# Altium integrated library transistor-power.IntLib: 74 symbols
Pins are listed as number, name and electrical type; pins without a type are passive.

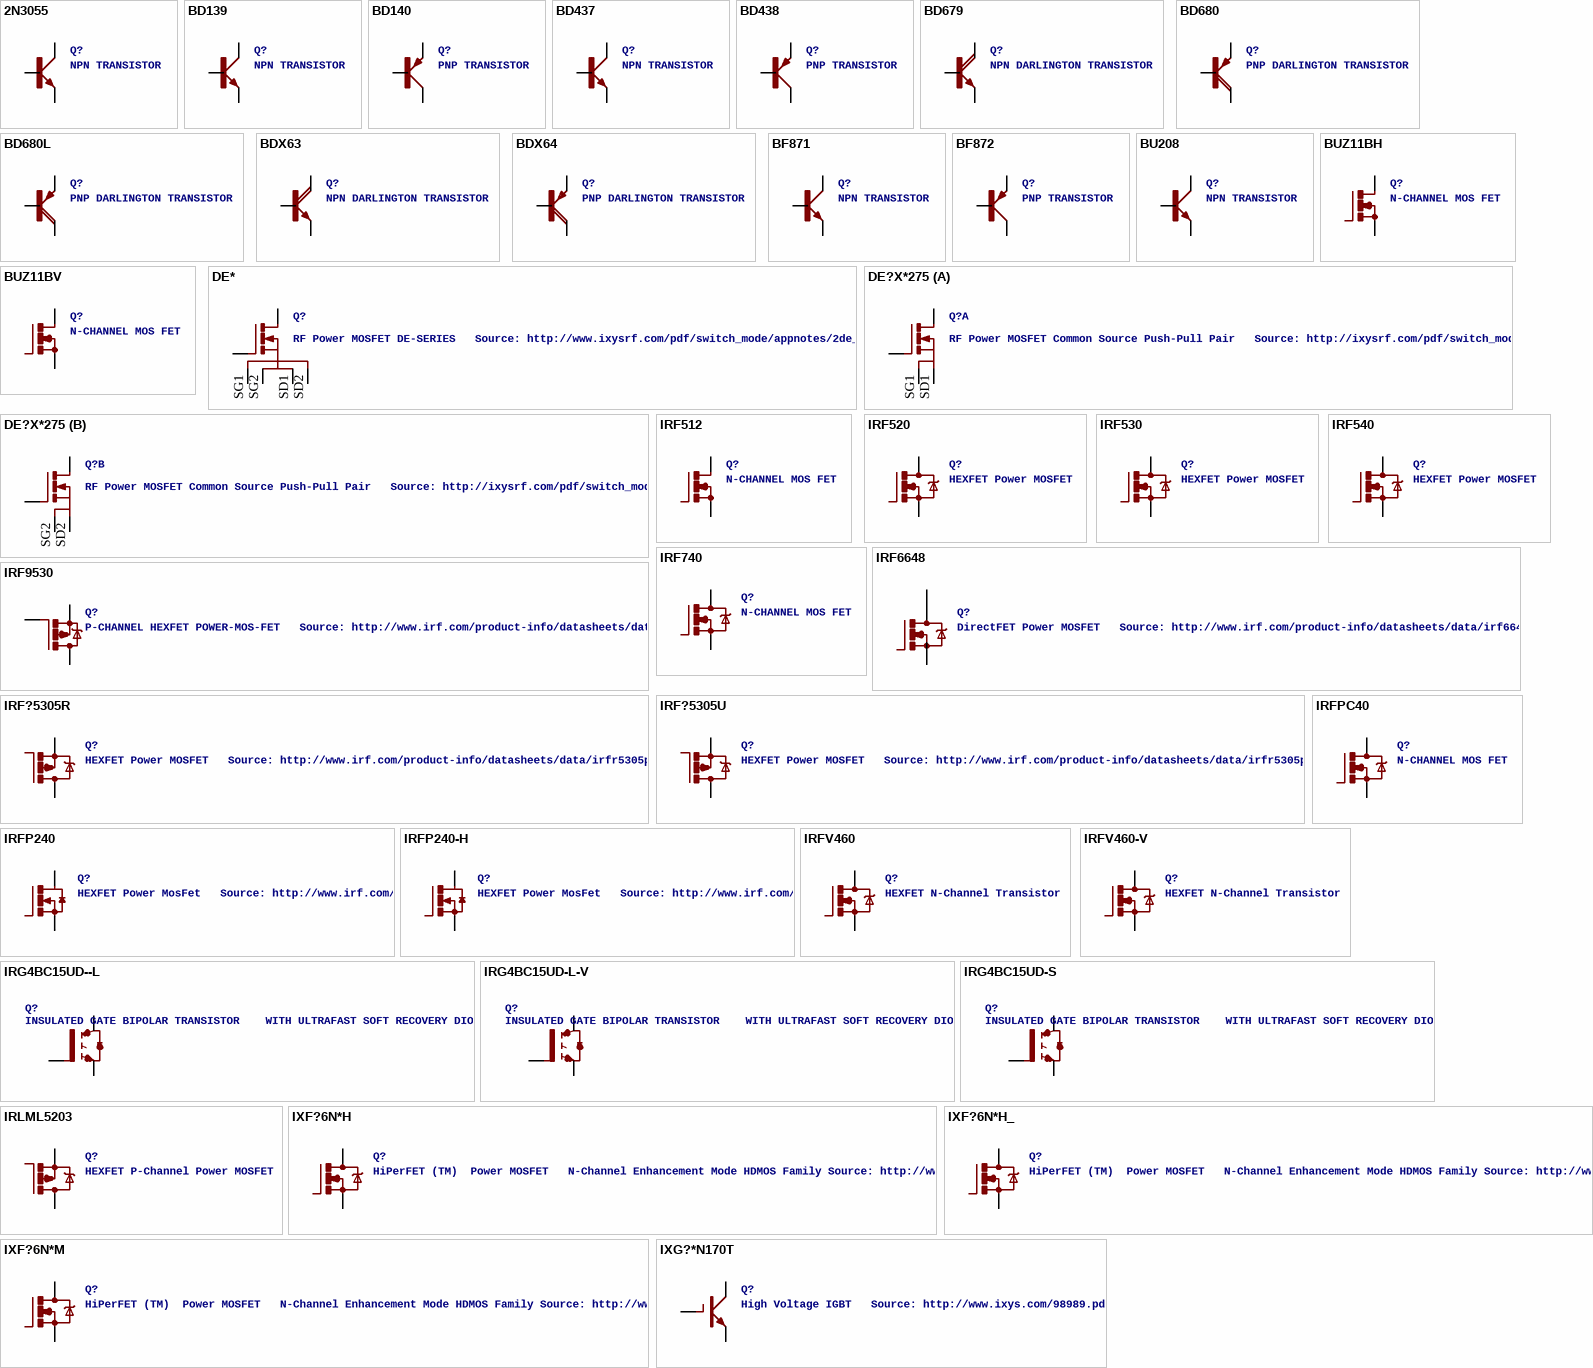
[diagram p0: symbols 2N3055 to IXG?*N170T]

## 2N3055
designator Q?, comment NPN TRANSISTOR
footprint TO3A
pins: B, C C@1, C1 C, E

## BD139
designator Q?, comment NPN TRANSISTOR
footprint TO126AV
pins: B, C, E

## BD140
designator Q?, comment PNP TRANSISTOR
footprint TO126AV
pins: B, C, E

## BD437
designator Q?, comment NPN TRANSISTOR
footprint TO126AV
pins: B, C, E

## BD438
designator Q?, comment PNP TRANSISTOR
footprint TO126AV
pins: B, C, E

## BD679
designator Q?, comment NPN DARLINGTON TRANSISTOR
footprint TO126AV
pins: B, C, E

## BD680
designator Q?, comment PNP DARLINGTON TRANSISTOR
footprint TO126AV
pins: B, C, E

## BD680L
designator Q?, comment PNP DARLINGTON TRANSISTOR
footprint TO126AH
pins: B, C, E

## BDX63
designator Q?, comment NPN DARLINGTON TRANSISTOR
footprint TO3A
pins: B, C C@1, C1 C, E

## BDX64
designator Q?, comment PNP DARLINGTON TRANSISTOR
footprint TO3A
pins: B, C C@1, C1 C, E

## BF871
designator Q?, comment NPN TRANSISTOR
footprint TO202AH
pins: 1 B, 2 C, 3 E

## BF872
designator Q?, comment PNP TRANSISTOR
footprint TO202AH
pins: 1 E, 2 C, 3 B

## BU208
designator Q?, comment NPN TRANSISTOR
footprint TO3A
pins: B, C C@1, C1 C, E

## BUZ11BH
designator Q?, comment N-CHANNEL MOS FET
footprint TO220BH
pins: D, G, S

## BUZ11BV
designator Q?, comment N-CHANNEL MOS FET
footprint TO220BV
pins: D, G, S

## DE*
designator Q?, comment RF Power MOSFET DE-SERIES   Source: http://www.ixysrf.com/pdf/switch_mode/appnotes/2de_series_intro.pdf
footprint DE275
pins: D, G, SD1, SD2, SG1, SG2

## DE?X*275
designator Q?, comment RF Power MOSFET Common Source Push-Pull Pair   Source: http://ixysrf.com/pdf/switch_mode/de275x2_501n16a.pdf
footprint DE_X
part A pins: D1 D, G1 G, SD1 SD, SG1 SG
part B pins: D2 D, G2 G, SD2 SD, SG2 SG

## IRF512
designator Q?, comment N-CHANNEL MOS FET
footprint TO220BV
pins: D, G, S

## IRF520
designator Q?, comment HEXFET Power MOSFET
footprint TO220BV
pins: D, G, S

## IRF530
designator Q?, comment HEXFET Power MOSFET
footprint TO220BV
pins: D, G, S

## IRF540
designator Q?, comment HEXFET Power MOSFET
footprint TO220BV
pins: D, G, S

## IRF740
designator Q?, comment N-CHANNEL MOS FET
footprint TO220BV
pins: D, G, S

## IRF6648
designator Q?, comment DirectFET Power MOSFET   Source: http://www.irf.com/product-info/datasheets/data/irf6648.pdf
footprint DIRECTFET
pins: D@1 D, D@2 D@1, D@3 D@2, D@4 D@3, G, S@1 S, S@2 S@1

## IRF9530
designator Q?, comment P-CHANNEL HEXFET POWER-MOS-FET   Source: http://www.irf.com/product-info/datasheets/data/irf9530.pdf
footprint TO220BV
pins: D, G, S

## IRF?5305R
designator Q?, comment HEXFET Power MOSFET   Source: http://www.irf.com/product-info/datasheets/data/irfr5305pbf.pdf
footprint D-PAK_TO252AA
pins: 1 G, 3 S, 4 D

## IRF?5305U
designator Q?, comment HEXFET Power MOSFET   Source: http://www.irf.com/product-info/datasheets/data/irfr5305pbf.pdf
footprint I-PAK_TO251AA
pins: 1 G, 2 D, 3 S

## IRFP240
designator Q?, comment HEXFET Power MosFet   Source: http://www.irf.com/
footprint TO247BV
pins: D, G, S

## IRFP240-H
designator Q?, comment HEXFET Power MosFet   Source: http://www.irf.com/
footprint TO247BH
pins: D, G, S

## IRFPC40
designator Q?, comment N-CHANNEL MOS FET
footprint TO247BV
pins: D, G, S

## IRFV460
designator Q?, comment HEXFET N-Channel Transistor
footprint TO258AA
pins: 1-D D, 2-S S, 3-G G

## IRFV460-V
designator Q?, comment HEXFET N-Channel Transistor
footprint TO258AA-V
pins: 1-D D, 2-S S, 3-G G

## IRG4BC15UD--L
designator Q?, comment INSULATED GATE BIPOLAR TRANSISTOR    WITH ULTRAFAST SOFT RECOVERY DIODE
footprint TO262-H
pins: 1 G, 2 C, 3 E

## IRG4BC15UD-L-V
designator Q?, comment INSULATED GATE BIPOLAR TRANSISTOR    WITH ULTRAFAST SOFT RECOVERY DIODE
footprint TO262-V
pins: 1 G, 2 C, 3 E

## IRG4BC15UD-S
designator Q?, comment INSULATED GATE BIPOLAR TRANSISTOR    WITH ULTRAFAST SOFT RECOVERY DIODE
footprint D2PACK
pins: 1 G, 2 C, 3 E

## IRLML5203
designator Q?, comment HEXFET P-Channel Power MOSFET
footprint MICRO3
pins: 1 G, 2 S, 3 D

## IXF?6N*H
designator Q?, comment HiPerFET (TM)  Power MOSFET   N-Channel Enhancement Mode HDMOS Family Source: http://www.ixys.com/91529.pdf
footprint TO-247AD-V
pins: D, G, S

## IXF?6N*H_
designator Q?, comment HiPerFET (TM)  Power MOSFET   N-Channel Enhancement Mode HDMOS Family Source: http://www.ixys.com/91529.pdf
footprint TO-247AD-H
pins: D, G, S

## IXF?6N*M
designator Q?, comment HiPerFET (TM)  Power MOSFET   N-Channel Enhancement Mode HDMOS Family Source: http://www.ixys.com/91529.pdf
footprint TO204
pins: D, G, S

## IXG?*N170T
designator Q?, comment High Voltage IGBT   Source: http://www.ixys.com/98989.pdf
footprint TO268
pins: C@1 C, C@2 C@1, E, G

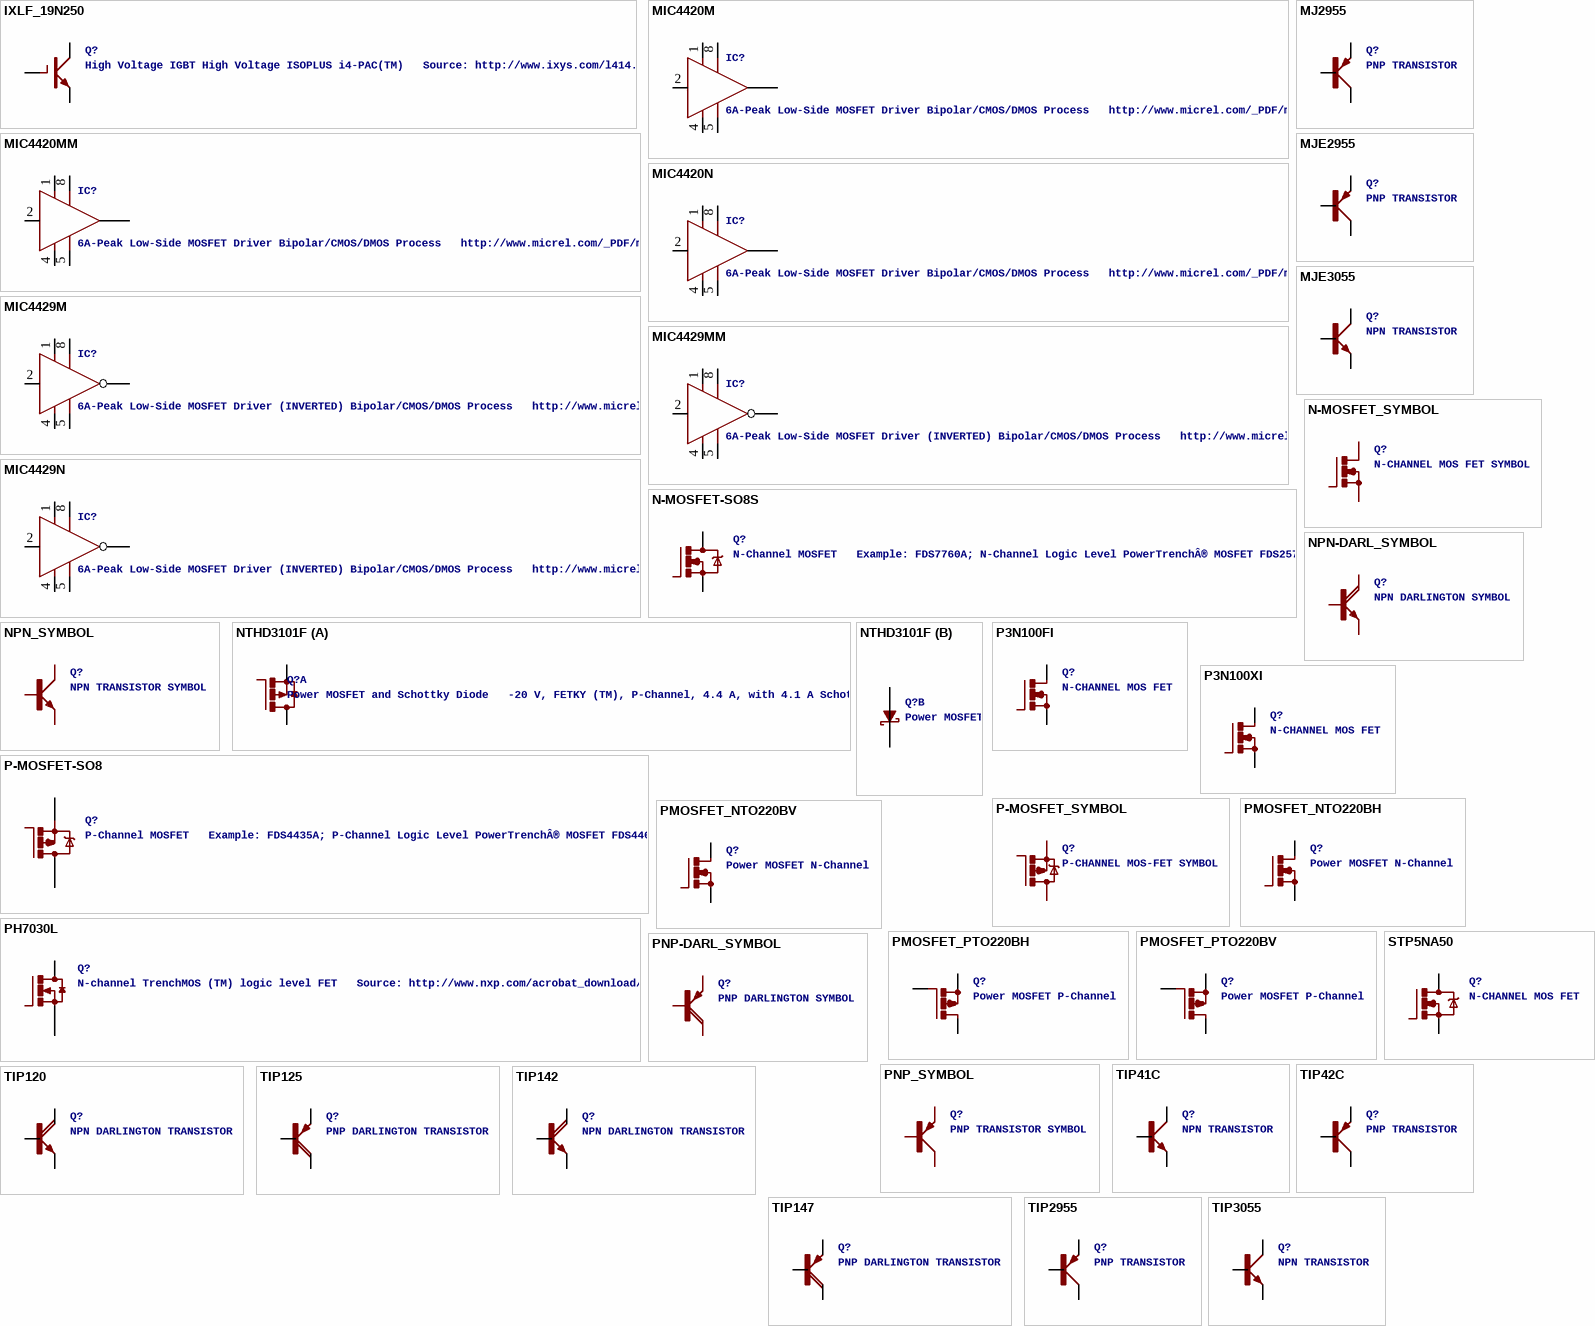
[diagram p1: symbols IXLF_19N250 to TIP3055]

## IXLF_19N250
designator Q?, comment High Voltage IGBT High Voltage ISOPLUS i4-PAC(TM)   Source: http://www.ixys.com/l414.pdf
footprint ISOPLUS_I4
pins: 1 G, 2 E, 5 C

## MIC4420M
designator IC?, comment 6A-Peak Low-Side MOSFET Driver Bipolar/CMOS/DMOS Process   http://www.micrel.com/_PDF/mic4420.pdf
footprint SO-08
pins: 1 VS (power), 2 IN, 4 GND (power), 5 GND1 (power), 6 OUT@1, 7 OUT@2, 8 VS1 (power)

## MIC4420MM
designator IC?, comment 6A-Peak Low-Side MOSFET Driver Bipolar/CMOS/DMOS Process   http://www.micrel.com/_PDF/mic4420.pdf
footprint MSOP8
pins: 1 VS (power), 2 IN, 4 GND (power), 5 GND1 (power), 6 OUT@1, 7 OUT@2, 8 VS1 (power)

## MIC4420N
designator IC?, comment 6A-Peak Low-Side MOSFET Driver Bipolar/CMOS/DMOS Process   http://www.micrel.com/_PDF/mic4420.pdf
footprint DIL08
pins: 1 VS (power), 2 IN, 4 GND (power), 5 GND1 (power), 6 OUT@1, 7 OUT@2, 8 VS1 (power)

## MIC4429M
designator IC?, comment 6A-Peak Low-Side MOSFET Driver (INVERTED) Bipolar/CMOS/DMOS Process   http://www.micrel.com/_PDF/mic4420.pdf
footprint SO-08
pins: 1 VS (power), 2 IN, 4 GND (power), 5 GND1 (power), 6 OUT@1, 7 OUT@2, 8 VS1 (power)

## MIC4429MM
designator IC?, comment 6A-Peak Low-Side MOSFET Driver (INVERTED) Bipolar/CMOS/DMOS Process   http://www.micrel.com/_PDF/mic4420.pdf
footprint MSOP8
pins: 1 VS (power), 2 IN, 4 GND (power), 5 GND1 (power), 6 OUT@1, 7 OUT@2, 8 VS1 (power)

## MIC4429N
designator IC?, comment 6A-Peak Low-Side MOSFET Driver (INVERTED) Bipolar/CMOS/DMOS Process   http://www.micrel.com/_PDF/mic4420.pdf
footprint DIL08
pins: 1 VS (power), 2 IN, 4 GND (power), 5 GND1 (power), 6 OUT@1, 7 OUT@2, 8 VS1 (power)

## MJ2955
designator Q?, comment PNP TRANSISTOR
footprint TO3A
pins: B, C, C1, E

## MJE2955
designator Q?, comment PNP TRANSISTOR
footprint TO220AV
pins: B, C, E

## MJE3055
designator Q?, comment NPN TRANSISTOR
footprint TO220AV
pins: B, C, E

## N-MOSFET-SO8S
designator Q?, comment N-Channel MOSFET   Example: FDS7760A; N-Channel Logic Level PowerTrenchÂ® MOSFET FDS2572; N-Channel UltraFETÂ® Trench MOSFET Source: www.fairchildsemi.com
footprint SO-08
pins: 1 S, 2 S, 3 S, 4 G, 5 D, 6 D, 7 D, 8 D

## N-MOSFET_SYMBOL
designator Q?, comment N-CHANNEL MOS FET SYMBOL

## NPN-DARL_SYMBOL
designator Q?, comment NPN DARLINGTON SYMBOL

## NPN_SYMBOL
designator Q?, comment NPN TRANSISTOR SYMBOL

## NTHD3101F
designator Q?, comment Power MOSFET and Schottky Diode   -20 V, FETKY (TM), P-Channel, 4.4 A, with 4.1 A Schottky Barrier Diode, ChipFET (TM) Source: http://www.onsemi.com/pub/Collateral/NTHD3101F-D.PDF
footprint CHIPFET-1206A
part A pins: 3 S, 4 G, 5 D, 6 D@2
part B pins: 1 A, 2 A@1, 7 C, 8 C@1

## P3N100FI
designator Q?, comment N-CHANNEL MOS FET
footprint IW220B
pins: D, G, S

## P3N100XI
designator Q?, comment N-CHANNEL MOS FET
footprint IW221
pins: D, G, S

## P-MOSFET-SO8
designator Q?, comment P-Channel MOSFET   Example: FDS4435A; P-Channel Logic Level PowerTrenchÂ® MOSFET FDS4465; P-Channel 1.8V Specified PowerTrenchÂ® MOSFET Source: www.fairchildsemi.com
footprint SO-08
pins: 1 S, 2 S@1, 3 S@2, 4 G, 5 D, 6 D@1, 7 D@2, 8 D@3

## P-MOSFET_SYMBOL
designator Q?, comment P-CHANNEL MOS-FET SYMBOL

## PH7030L
designator Q?, comment N-channel TrenchMOS (TM) logic level FET   Source: http://www.nxp.com/acrobat_download/datasheets/PH7030L_4.pdf
footprint SOT669
pins: 1 S, 2 S@1, 3 S@2, 4 G, MB D

## PMOSFET_NTO220BH
designator Q?, comment Power MOSFET N-Channel
footprint TO220BH
pins: D, G, S

## PMOSFET_NTO220BV
designator Q?, comment Power MOSFET N-Channel
footprint TO220BV
pins: D, G, S

## PMOSFET_PTO220BH
designator Q?, comment Power MOSFET P-Channel
footprint TO220BH
pins: D, G, S

## PMOSFET_PTO220BV
designator Q?, comment Power MOSFET P-Channel
footprint TO220BV
pins: D, G, S

## PNP-DARL_SYMBOL
designator Q?, comment PNP DARLINGTON SYMBOL

## PNP_SYMBOL
designator Q?, comment PNP TRANSISTOR SYMBOL

## STP5NA50
designator Q?, comment N-CHANNEL MOS FET
footprint TO220BV
pins: D, G, S

## TIP41C
designator Q?, comment NPN TRANSISTOR
footprint TO220AV
pins: B, C, E

## TIP42C
designator Q?, comment PNP TRANSISTOR
footprint TO220AV
pins: B, C, E

## TIP120
designator Q?, comment NPN DARLINGTON TRANSISTOR
footprint TO220AH
pins: B, C, E

## TIP125
designator Q?, comment PNP DARLINGTON TRANSISTOR
footprint TO220AH
pins: B, C, E

## TIP142
designator Q?, comment NPN DARLINGTON TRANSISTOR
footprint SOT93
pins: B, C, E

## TIP147
designator Q?, comment PNP DARLINGTON TRANSISTOR
footprint SOT93
pins: B, C, E

## TIP2955
designator Q?, comment PNP TRANSISTOR
footprint TOP3AV
pins: B, C, E

## TIP3055
designator Q?, comment NPN TRANSISTOR
footprint TOP3AV
pins: B, C, E